# EAGLE library part MGA-68563 (library custom)
RF Amplifier 0.1-1.5GHz 17.5dBm P1dB 19.7dB Gain 1dB NF 3V 16mA
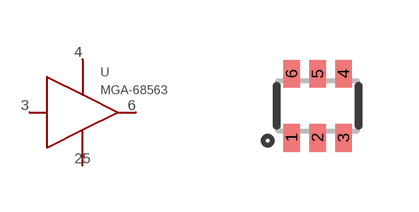
[diagram p38: symbol with the pads of SOT-363; footprint SOT-363]

Designator prefix U

## MGA-68563  [SOT-363]
1  4-GND1
2  2-GND2
3  6-IN
4  1-BIAS
5  5-GND2
6  3-OUT

## Footprint SOT-363 (pad centres in mm)
smd 0.42 x 0.7: 1 -0.65,-0.8; 2 0,-0.8; 3 0.65,-0.8; 4 0.65,0.8; 5 0,0.8; 6 -0.65,0.8